# Altium integrated library Xilinx Spartan-3AN.IntLib: 30 symbols (part 5 of 23)
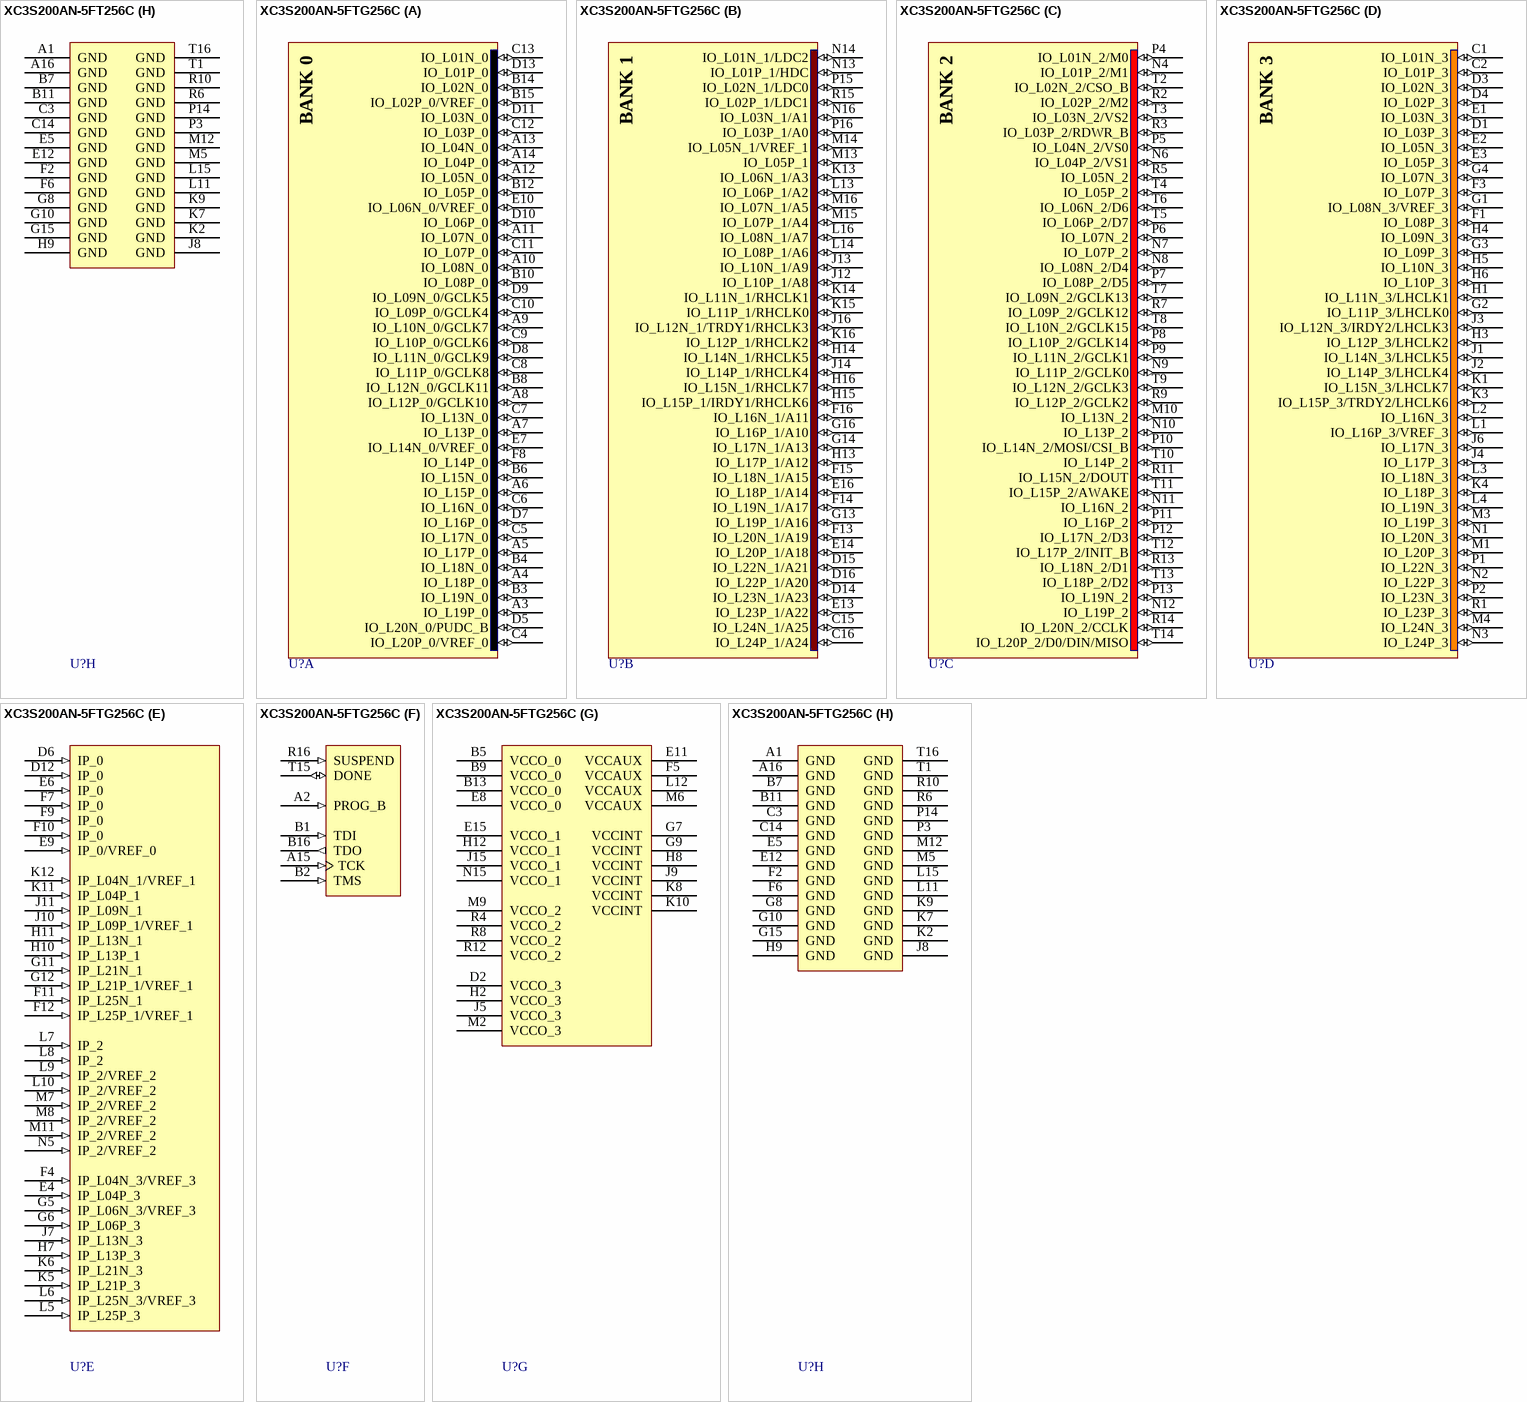
[diagram p41: symbols XC3S200AN-5FT256C to XC3S200AN-5FTG256C]

## XC3S200AN-5FT256C
designator U?
Spartan-3AN Non-Volatile FPGA, 195 User I/Os, 256-Pin FTBGA, High Performance, Commercial Grade; DatasheetVersion: ver 3.2, Nov-2009; PackageVersion: ver1.3, Oct-2007; PackageReference: FT256; PackageDescription: 256-Ball Fine Pitch Thin Ball Grid Array 1.00 mm Pitch (FT256); Code_JEDEC: MS-034-AAF-1*; ComponentLink1Description: Manufacturer URL; ComponentLink1URL: http://www.xilinx.com/; ComponentLink2Description: Spartan-3AN Datasheet; ComponentLink2URL: http://www.xilinx.com/support/documentation/data_sheets/ds557.pdf; ComponentLink3Description: FT256 Package Drawing; ComponentLink3URL: http://www.xilinx.com/support/documentation/package_specs/ft256.pdf; ComponentLink4Description: Spartan-3AN Documents; ComponentLink4URL: http://www.xilinx.com/support/documentation/spartan-3an.htm
footprint FT256 (BGA, 256-Leads, Body 17x17mm, Pitch 1mm)
part A pins: A3 IO_L19P_0 (io) "Unrestricted, general-purpose user-I/O pin.", A4 IO_L18P_0 (io) "Unrestricted, general-purpose user-I/O pin.", A5 IO_L17P_0 (io) "Unrestricted, general-purpose user-I/O pin.", A6 IO_L15P_0 (io) "Unrestricted, general-purpose user-I/O pin.", A7 IO_L13P_0 (io) "Unrestricted, general-purpose user-I/O pin.", A8 IO_L12P_0/GCLK10 (io) "Either a user-I/O pin or a global clock input.", A9 IO_L10N_0/GCLK7 (io) "Either a user-I/O pin or a global clock input.", A10 IO_L08N_0 (io) "Unrestricted, general-purpose user-I/O pin.", A11 IO_L07N_0 (io) "Unrestricted, general-purpose user-I/O pin.", A12 IO_L05N_0 (io) "Unrestricted, general-purpose user-I/O pin.", A13 IO_L04N_0 (io) "Unrestricted, general-purpose user-I/O pin.", A14 IO_L04P_0 (io) "Unrestricted, general-purpose user-I/O pin.", B3 IO_L19N_0 (io) "Unrestricted, general-purpose user-I/O pin.", B4 IO_L18N_0 (io) "Unrestricted, general-purpose user-I/O pin.", B6 IO_L15N_0 (io) "Unrestricted, general-purpose user-I/O pin.", B8 IO_L12N_0/GCLK11 (io) "Either a user-I/O pin or a global clock input.", B10 IO_L08P_0 (io) "Unrestricted, general-purpose user-I/O pin.", B12 IO_L05P_0 (io) "Unrestricted, general-purpose user-I/O pin.", B14 IO_L02N_0 (io) "Unrestricted, general-purpose user-I/O pin.", B15 IO_L02P_0/VREF_0 (io) "Dual-purpose pin that is either a user-I/O pin or provides a reference voltage input.", C4 IO_L20P_0/VREF_0 (io) "Dual-purpose pin that is either a user-I/O pin or provides a reference voltage input.", C5 IO_L17N_0 (io) "Unrestricted, general-purpose user-I/O pin.", C6 IO_L16N_0 (io) "Unrestricted, general-purpose user-I/O pin.", C7 IO_L13N_0 (io) "Unrestricted, general-purpose user-I/O pin.", C8 IO_L11P_0/GCLK8 (io) "Either a user-I/O pin or a global clock input.", C9 IO_L10P_0/GCLK6 (io) "Either a user-I/O pin or a global clock input.", C10 IO_L09P_0/GCLK4 (io) "Either a user-I/O pin or a global clock input.", C11 IO_L07P_0 (io) "Unrestricted, general-purpose user-I/O pin.", C12 IO_L03P_0 (io) "Unrestricted, general-purpose user-I/O pin.", C13 IO_L01N_0 (io) "Unrestricted, general-purpose user-I/O pin.", D5 IO_L20N_0/PUDC_B (io) "Dual-purpose pin used in some configuration modes, and then usually available as a user-I/O.", D7 IO_L16P_0 (io) "Unrestricted, general-purpose user-I/O pin.", D8 IO_L11N_0/GCLK9 (io) "Either a user-I/O pin or a global clock input.", D9 IO_L09N_0/GCLK5 (io) "Either a user-I/O pin or a global clock input.", D10 IO_L06P_0 (io) "Unrestricted, general-purpose user-I/O pin.", D11 IO_L03N_0 (io) "Unrestricted, general-purpose user-I/O pin.", D13 IO_L01P_0 (io) "Unrestricted, general-purpose user-I/O pin.", E7 IO_L14N_0/VREF_0 (io) "Dual-purpose pin that is either a user-I/O pin or provides a reference voltage input.", E10 IO_L06N_0/VREF_0 (io) "Dual-purpose pin that is either a user-I/O pin or provides a reference voltage input.", F8 IO_L14P_0 (io) "Unrestricted, general-purpose user-I/O pin."
part B pins: C15 IO_L24N_1/A25 (io) "Dual-purpose pin used in some configuration modes, and then usually available as a user-I/O.", C16 IO_L24P_1/A24 (io) "Dual-purpose pin used in some configuration modes, and then usually available as a user-I/O.", D14 IO_L23N_1/A23 (io) "Dual-purpose pin used in some configuration modes, and then usually available as a user-I/O.", D15 IO_L22N_1/A21 (io) "Dual-purpose pin used in some configuration modes, and then usually available as a user-I/O.", D16 IO_L22P_1/A20 (io) "Dual-purpose pin used in some configuration modes, and then usually available as a user-I/O.", E13 IO_L23P_1/A22 (io) "Dual-purpose pin used in some configuration modes, and then usually available as a user-I/O.", E14 IO_L20P_1/A18 (io) "Dual-purpose pin used in some configuration modes, and then usually available as a user-I/O.", E16 IO_L18P_1/A14 (io) "Dual-purpose pin used in some configuration modes, and then usually available as a user-I/O.", F13 IO_L20N_1/A19 (io) "Dual-purpose pin used in some configuration modes, and then usually available as a user-I/O.", F14 IO_L19N_1/A17 (io) "Dual-purpose pin used in some configuration modes, and then usually available as a user-I/O.", F15 IO_L18N_1/A15 (io) "Dual-purpose pin used in some configuration modes, and then usually available as a user-I/O.", F16 IO_L16N_1/A11 (io) "Dual-purpose pin used in some configuration modes, and then usually available as a user-I/O.", G13 IO_L19P_1/A16 (io) "Dual-purpose pin used in some configuration modes, and then usually available as a user-I/O.", G14 IO_L17N_1/A13 (io) "Dual-purpose pin used in some configuration modes, and then usually available as a user-I/O.", G16 IO_L16P_1/A10 (io) "Dual-purpose pin used in some configuration modes, and then usually available as a user-I/O.", H13 IO_L17P_1/A12 (io) "Dual-purpose pin used in some configuration modes, and then usually available as a user-I/O.", H14 IO_L14N_1/RHCLK5 (io) "Either a user-I/O pin or a global clock input for right half of device.", H15 IO_L15P_1/IRDY1/RHCLK6 (io) "Either a user-I/O pin or a global clock input for right half of device.", H16 IO_L15N_1/RHCLK7 (io) "Either a user-I/O pin or a global clock input for right half of device.", J12 IO_L10P_1/A8 (io) "Dual-purpose pin used in some configuration modes, and then usually available as a user-I/O.", J13 IO_L10N_1/A9 (io) "Dual-purpose pin used in some configuration modes, and then usually available as a user-I/O.", J14 IO_L14P_1/RHCLK4 (io) "Either a user-I/O pin or a global clock input for right half of device.", J16 IO_L12N_1/TRDY1/RHCLK3 (io) "Either a user-I/O pin or a global clock input for right half of device.", K13 IO_L06N_1/A3 (io) "Dual-purpose pin used in some configuration modes, and then usually available as a user-I/O.", K14 IO_L11N_1/RHCLK1 (io) "Either a user-I/O pin or a global clock input for right half of device.", K15 IO_L11P_1/RHCLK0 (io) "Either a user-I/O pin or a global clock input for right half of device.", K16 IO_L12P_1/RHCLK2 (io) "Either a user-I/O pin or a global clock input for right half of device.", L13 IO_L06P_1/A2 (io) "Dual-purpose pin used in some configuration modes, and then usually available as a user-I/O.", L14 IO_L08P_1/A6 (io) "Dual-purpose pin used in some configuration modes, and then usually available as a user-I/O.", L16 IO_L08N_1/A7 (io) "Dual-purpose pin used in some configuration modes, and then usually available as a user-I/O.", M13 IO_L05P_1 (io) "Unrestricted, general-purpose user-I/O pin.", M14 IO_L05N_1/VREF_1 (io) "Dual-purpose pin that is either a user-I/O pin or provides a reference voltage input.", M15 IO_L07P_1/A4 (io) "Dual-purpose pin used in some configuration modes, and then usually available as a user-I/O.", M16 IO_L07N_1/A5 (io) "Dual-purpose pin used in some configuration modes, and then usually available as a user-I/O.", N13 IO_L01P_1/HDC (io) "Dual-purpose pin used in some configuration modes, and then usually available as a user-I/O.", N14 IO_L01N_1/LDC2 (io) "Dual-purpose pin used in some configuration modes, and then usually available as a user-I/O.", N16 IO_L03N_1/A1 (io) "Dual-purpose pin used in some configuration modes, and then usually available as a user-I/O.", P15 IO_L02N_1/LDC0 (io) "Dual-purpose pin used in some configuration modes, and then usually available as a user-I/O.", P16 IO_L03P_1/A0 (io) "Dual-purpose pin used in some configuration modes, and then usually available as a user-I/O.", R15 IO_L02P_1/LDC1 (io) "Dual-purpose pin used in some configuration modes, and then usually available as a user-I/O."
part C pins: M10 IO_L13N_2 (io) "Unrestricted, general-purpose user-I/O pin.", N4 IO_L01P_2/M1 (io) "Dual-purpose pin used in some configuration modes, and then usually available as a user-I/O.", N6 IO_L04P_2/VS1 (io) "Dual-purpose pin used in some configuration modes, and then usually available as a user-I/O.", N7 IO_L07P_2 (io) "Unrestricted, general-purpose user-I/O pin.", N8 IO_L08N_2/D4 (io) "Dual-purpose pin used in some configuration modes, and then usually available as a user-I/O.", N9 IO_L11P_2/GCLK0 (io) "Either a user-I/O pin or a global clock input.", N10 IO_L13P_2 (io) "Unrestricted, general-purpose user-I/O pin.", N11 IO_L16N_2 (io) "Unrestricted, general-purpose user-I/O pin.", N12 IO_L19P_2 (io) "Unrestricted, general-purpose user-I/O pin.", P4 IO_L01N_2/M0 (io) "Dual-purpose pin used in some configuration modes, and then usually available as a user-I/O.", P5 IO_L04N_2/VS0 (io) "Dual-purpose pin used in some configuration modes, and then usually available as a user-I/O.", P6 IO_L07N_2 (io) "Unrestricted, general-purpose user-I/O pin.", P7 IO_L08P_2/D5 (io) "Dual-purpose pin used in some configuration modes, and then usually available as a user-I/O.", P8 IO_L10P_2/GCLK14 (io) "Either a user-I/O pin or a global clock input.", P9 IO_L11N_2/GCLK1 (io) "Either a user-I/O pin or a global clock input.", P10 IO_L14N_2/MOSI/CSI_B (io) "Dual-purpose pin used in some configuration modes, and then usually available as a user-I/O.", P11 IO_L16P_2 (io) "Unrestricted, general-purpose user-I/O pin.", P12 IO_L17N_2/D3 (io) "Dual-purpose pin used in some configuration modes, and then usually available as a user-I/O.", P13 IO_L19N_2 (io) "Unrestricted, general-purpose user-I/O pin.", R2 IO_L02P_2/M2 (io) "Dual-purpose pin used in some configuration modes, and then usually available as a user-I/O.", R3 IO_L03P_2/RDWR_B (io) "Dual-purpose pin used in some configuration modes, and then usually available as a user-I/O.", R5 IO_L05N_2 (io) "Unrestricted, general-purpose user-I/O pin.", R7 IO_L09P_2/GCLK12 (io) "Either a user-I/O pin or a global clock input.", R9 IO_L12P_2/GCLK2 (io) "Either a user-I/O pin or a global clock input.", R11 IO_L15N_2/DOUT (io) "Dual-purpose pin used in some configuration modes, and then usually available as a user-I/O.", R13 IO_L18N_2/D1 (io) "Dual-purpose pin used in some configuration modes, and then usually available as a user-I/O.", R14 IO_L20N_2/CCLK (io) "Dual-purpose pin used in some configuration modes, and then usually available as a user-I/O.", T2 IO_L02N_2/CSO_B (io) "Dual-purpose pin used in some configuration modes, and then usually available as a user-I/O.", T3 IO_L03N_2/VS2 (io) "Dual-purpose pin used in some configuration modes, and then usually available as a user-I/O.", T4 IO_L05P_2 (io) "Unrestricted, general-purpose user-I/O pin.", T5 IO_L06P_2/D7 (io) "Dual-purpose pin used in some configuration modes, and then usually available as a user-I/O.", T6 IO_L06N_2/D6 (io) "Dual-purpose pin used in some configuration modes, and then usually available as a user-I/O.", T7 IO_L09N_2/GCLK13 (io) "Either a user-I/O pin or a global clock input.", T8 IO_L10N_2/GCLK15 (io) "Either a user-I/O pin or a global clock input.", T9 IO_L12N_2/GCLK3 (io) "Either a user-I/O pin or a global clock input.", T10 IO_L14P_2 (io) "Unrestricted, general-purpose user-I/O pin.", T11 IO_L15P_2/AWAKE (io) "Dual-Purpose pin. Used for the power-saving Suspend mode and user-I/O.", T12 IO_L17P_2/INIT_B (io) "Dual-purpose pin used in some configuration modes, and then usually available as a user-I/O.", T13 IO_L18P_2/D2 (io) "Dual-purpose pin used in some configuration modes, and then usually available as a user-I/O.", T14 IO_L20P_2/D0/DIN/MISO (io) "Dual-purpose pin used in some configuration modes, and then usually available as a user-I/O."
part D pins: C1 IO_L01N_3 (io) "Unrestricted, general-purpose user-I/O pin.", C2 IO_L01P_3 (io) "Unrestricted, general-purpose user-I/O pin.", D1 IO_L03P_3 (io) "Unrestricted, general-purpose user-I/O pin.", D3 IO_L02N_3 (io) "Unrestricted, general-purpose user-I/O pin.", D4 IO_L02P_3 (io) "Unrestricted, general-purpose user-I/O pin.", E1 IO_L03N_3 (io) "Unrestricted, general-purpose user-I/O pin.", E2 IO_L05N_3 (io) "Unrestricted, general-purpose user-I/O pin.", E3 IO_L05P_3 (io) "Unrestricted, general-purpose user-I/O pin.", F1 IO_L08P_3 (io) "Unrestricted, general-purpose user-I/O pin.", F3 IO_L07P_3 (io) "Unrestricted, general-purpose user-I/O pin.", G1 IO_L08N_3/VREF_3 (io) "Dual-purpose pin that is either a user-I/O pin or provides a reference voltage input.", G2 IO_L11P_3/LHCLK0 (io) "Either a user-I/O pin or a global clock input for left half of device.", G3 IO_L09P_3 (io) "Unrestricted, general-purpose user-I/O pin.", G4 IO_L07N_3 (io) "Unrestricted, general-purpose user-I/O pin.", H1 IO_L11N_3/LHCLK1 (io) "Either a user-I/O pin or a global clock input for left half of device.", H3 IO_L12P_3/LHCLK2 (io) "Either a user-I/O pin or a global clock input for left half of device.", H4 IO_L09N_3 (io) "Unrestricted, general-purpose user-I/O pin.", H5 IO_L10N_3 (io) "Unrestricted, general-purpose user-I/O pin.", H6 IO_L10P_3 (io) "Unrestricted, general-purpose user-I/O pin.", J1 IO_L14N_3/LHCLK5 (io) "Either a user-I/O pin or a global clock input for left half of device.", J2 IO_L14P_3/LHCLK4 (io) "Either a user-I/O pin or a global clock input for left half of device.", J3 IO_L12N_3/IRDY2/LHCLK3 (io) "Either a user-I/O pin or a global clock input for left half of device.", J4 IO_L17P_3 (io) "Unrestricted, general-purpose user-I/O pin.", J6 IO_L17N_3 (io) "Unrestricted, general-purpose user-I/O pin.", K1 IO_L15N_3/LHCLK7 (io) "Either a user-I/O pin or a global clock input for left half of device.", K3 IO_L15P_3/TRDY2/LHCLK6 (io) "Either a user-I/O pin or a global clock input for left half of device.", K4 IO_L18P_3 (io) "Unrestricted, general-purpose user-I/O pin.", L1 IO_L16P_3/VREF_3 (io) "Dual-purpose pin that is either a user-I/O pin or provides a reference voltage input.", L2 IO_L16N_3 (io) "Unrestricted, general-purpose user-I/O pin.", L3 IO_L18N_3 (io) "Unrestricted, general-purpose user-I/O pin.", L4 IO_L19N_3 (io) "Unrestricted, general-purpose user-I/O pin.", M1 IO_L20P_3 (io) "Unrestricted, general-purpose user-I/O pin.", M3 IO_L19P_3 (io) "Unrestricted, general-purpose user-I/O pin.", M4 IO_L24N_3 (io) "Unrestricted, general-purpose user-I/O pin.", N1 IO_L20N_3 (io) "Unrestricted, general-purpose user-I/O pin.", N2 IO_L22P_3 (io) "Unrestricted, general-purpose user-I/O pin.", N3 IO_L24P_3 (io) "Unrestricted, general-purpose user-I/O pin.", P1 IO_L22N_3 (io) "Unrestricted, general-purpose user-I/O pin.", P2 IO_L23N_3 (io) "Unrestricted, general-purpose user-I/O pin.", R1 IO_L23P_3 (io) "Unrestricted, general-purpose user-I/O pin."
part E pins: D6 IP_0 (in) "Unrestricted, general-purpose input-only pin.", D12 IP_0 (in) "Unrestricted, general-purpose input-only pin.", E4 IP_L04P_3 (in) "Unrestricted, general-purpose input-only pin.", E6 IP_0 (in) "Unrestricted, general-purpose input-only pin.", E9 IP_0/VREF_0 (in) "Dual-purpose pin that is either a Input-only pin, or provides a reference voltage input.", F4 IP_L04N_3/VREF_3 (in) "Dual-purpose pin that is either a Input-only pin, or provides a reference voltage input.", F7 IP_0 (in) "Unrestricted, general-purpose input-only pin.", F9 IP_0 (in) "Unrestricted, general-purpose input-only pin.", F10 IP_0 (in) "Unrestricted, general-purpose input-only pin.", F11 IP_L25N_1 (in) "Unrestricted, general-purpose input-only pin.", F12 IP_L25P_1/VREF_1 (in) "Dual-purpose pin that is either a Input-only pin, or provides a reference voltage input.", G5 IP_L06N_3/VREF_3 (in) "Dual-purpose pin that is either a Input-only pin, or provides a reference voltage input.", G6 IP_L06P_3 (in) "Unrestricted, general-purpose input-only pin.", G11 IP_L21N_1 (in) "Unrestricted, general-purpose input-only pin.", G12 IP_L21P_1/VREF_1 (in) "Dual-purpose pin that is either a Input-only pin, or provides a reference voltage input.", H7 IP_L13P_3 (in) "Unrestricted, general-purpose input-only pin.", H10 IP_L13P_1 (in) "Unrestricted, general-purpose input-only pin.", H11 IP_L13N_1 (in) "Unrestricted, general-purpose input-only pin.", J7 IP_L13N_3 (in) "Unrestricted, general-purpose input-only pin.", J10 IP_L09P_1/VREF_1 (in) "Dual-purpose pin that is either a Input-only pin, or provides a reference voltage input.", J11 IP_L09N_1 (in) "Unrestricted, general-purpose input-only pin.", K5 IP_L21P_3 (in) "Unrestricted, general-purpose input-only pin.", K6 IP_L21N_3 (in) "Unrestricted, general-purpose input-only pin.", K11 IP_L04P_1 (in) "Unrestricted, general-purpose input-only pin.", K12 IP_L04N_1/VREF_1 (in) "Dual-purpose pin that is either a Input-only pin, or provides a reference voltage input.", L5 IP_L25P_3 (in) "Unrestricted, general-purpose input-only pin.", L6 IP_L25N_3/VREF_3 (in) "Dual-purpose pin that is either a Input-only pin, or provides a reference voltage input.", L7 IP_2 (in) "Unrestricted, general-purpose input-only pin.", L8 IP_2 (in) "Unrestricted, general-purpose input-only pin.", L9 IP_2/VREF_2 (in) "Dual-purpose pin that is either a Input-only pin, or provides a reference voltage input.", L10 IP_2/VREF_2 (in) "Dual-purpose pin that is either a Input-only pin, or provides a reference voltage input.", M7 IP_2/VREF_2 (in) "Dual-purpose pin that is either a Input-only pin, or provides a reference voltage input.", M8 IP_2/VREF_2 (in) "Dual-purpose pin that is either a Input-only pin, or provides a reference voltage input.", M11 IP_2/VREF_2 (in) "Dual-purpose pin that is either a Input-only pin, or provides a reference voltage input.", N5 IP_2/VREF_2 (in) "Dual-purpose pin that is either a Input-only pin, or provides a reference voltage input."
part F pins: A2 PROG_B (in) "Dedicated configuration pin.", A15 TCK (in) "Dedicated JTAG pin.", B1 TDI (in) "Dedicated JTAG pin.", B2 TMS (in) "Dedicated JTAG pin.", B16 TDO (out) "Dedicated JTAG pin.", R16 SUSPEND (in) "Dedicated pin for the power-saving Suspend mode.", T15 DONE (io) "Dedicated configuration pin."
part G pins: B5 VCCO_0 (power) "Supplies power to the output buffers within the I/O bank.", B9 VCCO_0 (power) "Supplies power to the output buffers within the I/O bank.", B13 VCCO_0 (power) "Supplies power to the output buffers within the I/O bank.", D2 VCCO_3 (power) "Supplies power to the output buffers within the I/O bank.", E8 VCCO_0 (power) "Supplies power to the output buffers within the I/O bank.", E11 VCCAUX (power) "Dedicated auxiliary power supply pin.", E15 VCCO_1 (power) "Supplies power to the output buffers within the I/O bank.", F5 VCCAUX (power) "Dedicated auxiliary power supply pin.", G7 VCCINT (power) "Dedicated internal core logic power supply pin.", G9 VCCINT (power) "Dedicated internal core logic power supply pin.", H2 VCCO_3 (power) "Supplies power to the output buffers within the I/O bank.", H8 VCCINT (power) "Dedicated internal core logic power supply pin.", H12 VCCO_1 (power) "Supplies power to the output buffers within the I/O bank.", J5 VCCO_3 (power) "Supplies power to the output buffers within the I/O bank.", J9 VCCINT (power) "Dedicated internal core logic power supply pin.", J15 VCCO_1 (power) "Supplies power to the output buffers within the I/O bank.", K8 VCCINT (power) "Dedicated internal core logic power supply pin.", K10 VCCINT (power) "Dedicated internal core logic power supply pin.", L12 VCCAUX (power) "Dedicated auxiliary power supply pin.", M2 VCCO_3 (power) "Supplies power to the output buffers within the I/O bank.", M6 VCCAUX (power) "Dedicated auxiliary power supply pin.", M9 VCCO_2 (power) "Supplies power to the output buffers within the I/O bank.", N15 VCCO_1 (power) "Supplies power to the output buffers within the I/O bank.", R4 VCCO_2 (power) "Supplies power to the output buffers within the I/O bank.", R8 VCCO_2 (power) "Supplies power to the output buffers within the I/O bank.", R12 VCCO_2 (power) "Supplies power to the output buffers within the I/O bank."
part H pins: A1 GND (power) "Dedicated ground pin.", A16 GND (power) "Dedicated ground pin.", B7 GND (power) "Dedicated ground pin.", B11 GND (power) "Dedicated ground pin.", C3 GND (power) "Dedicated ground pin.", C14 GND (power) "Dedicated ground pin.", E5 GND (power) "Dedicated ground pin.", E12 GND (power) "Dedicated ground pin.", F2 GND (power) "Dedicated ground pin.", F6 GND (power) "Dedicated ground pin.", G8 GND (power) "Dedicated ground pin.", G10 GND (power) "Dedicated ground pin.", G15 GND (power) "Dedicated ground pin.", H9 GND (power) "Dedicated ground pin.", J8 GND (power) "Dedicated ground pin.", K2 GND (power) "Dedicated ground pin.", K7 GND (power) "Dedicated ground pin.", K9 GND (power) "Dedicated ground pin.", L11 GND (power) "Dedicated ground pin.", L15 GND (power) "Dedicated ground pin.", M5 GND (power) "Dedicated ground pin.", M12 GND (power) "Dedicated ground pin.", P3 GND (power) "Dedicated ground pin.", P14 GND (power) "Dedicated ground pin.", R6 GND (power) "Dedicated ground pin.", R10 GND (power) "Dedicated ground pin.", T1 GND (power) "Dedicated ground pin.", T16 GND (power) "Dedicated ground pin."
part A text: BANK 0
part B text: BANK 1
part C text: BANK 2
part D text: BANK 3

## XC3S200AN-5FTG256C
designator U?
Spartan-3AN Non-Volatile FPGA, 195 User I/Os, 256-Pin FTBGA, High Performance, Commercial Grade, Pb-Free; DatasheetVersion: ver 3.2, Nov-2009; PackageVersion: ver1.3, Oct-2007; PackageReference: FTG256; PackageDescription: 256-Ball Fine Pitch Thin Ball Grid Array 1.00 mm Pitch (FTG256) - Pb-Free; Code_JEDEC: MS-034-AAF-1*; ComponentLink1Description: Manufacturer URL; ComponentLink1URL: http://www.xilinx.com/; ComponentLink2Description: Spartan-3AN Datasheet; ComponentLink2URL: http://www.xilinx.com/support/documentation/data_sheets/ds557.pdf; ComponentLink3Description: FTG256 Package Drawing; ComponentLink3URL: http://www.xilinx.com/support/documentation/package_specs/ft256.pdf; ComponentLink4Description: Spartan-3AN Documents; ComponentLink4URL: http://www.xilinx.com/support/documentation/spartan-3an.htm
footprint FTG256 (BGA, 256-Leads, Body 17x17mm, Pitch 1mm)
part A pins: A3 IO_L19P_0 (io) "Unrestricted, general-purpose user-I/O pin.", A4 IO_L18P_0 (io) "Unrestricted, general-purpose user-I/O pin.", A5 IO_L17P_0 (io) "Unrestricted, general-purpose user-I/O pin.", A6 IO_L15P_0 (io) "Unrestricted, general-purpose user-I/O pin.", A7 IO_L13P_0 (io) "Unrestricted, general-purpose user-I/O pin.", A8 IO_L12P_0/GCLK10 (io) "Either a user-I/O pin or a global clock input.", A9 IO_L10N_0/GCLK7 (io) "Either a user-I/O pin or a global clock input.", A10 IO_L08N_0 (io) "Unrestricted, general-purpose user-I/O pin.", A11 IO_L07N_0 (io) "Unrestricted, general-purpose user-I/O pin.", A12 IO_L05N_0 (io) "Unrestricted, general-purpose user-I/O pin.", A13 IO_L04N_0 (io) "Unrestricted, general-purpose user-I/O pin.", A14 IO_L04P_0 (io) "Unrestricted, general-purpose user-I/O pin.", B3 IO_L19N_0 (io) "Unrestricted, general-purpose user-I/O pin.", B4 IO_L18N_0 (io) "Unrestricted, general-purpose user-I/O pin.", B6 IO_L15N_0 (io) "Unrestricted, general-purpose user-I/O pin.", B8 IO_L12N_0/GCLK11 (io) "Either a user-I/O pin or a global clock input.", B10 IO_L08P_0 (io) "Unrestricted, general-purpose user-I/O pin.", B12 IO_L05P_0 (io) "Unrestricted, general-purpose user-I/O pin.", B14 IO_L02N_0 (io) "Unrestricted, general-purpose user-I/O pin.", B15 IO_L02P_0/VREF_0 (io) "Dual-purpose pin that is either a user-I/O pin or provides a reference voltage input.", C4 IO_L20P_0/VREF_0 (io) "Dual-purpose pin that is either a user-I/O pin or provides a reference voltage input.", C5 IO_L17N_0 (io) "Unrestricted, general-purpose user-I/O pin.", C6 IO_L16N_0 (io) "Unrestricted, general-purpose user-I/O pin.", C7 IO_L13N_0 (io) "Unrestricted, general-purpose user-I/O pin.", C8 IO_L11P_0/GCLK8 (io) "Either a user-I/O pin or a global clock input.", C9 IO_L10P_0/GCLK6 (io) "Either a user-I/O pin or a global clock input.", C10 IO_L09P_0/GCLK4 (io) "Either a user-I/O pin or a global clock input.", C11 IO_L07P_0 (io) "Unrestricted, general-purpose user-I/O pin.", C12 IO_L03P_0 (io) "Unrestricted, general-purpose user-I/O pin.", C13 IO_L01N_0 (io) "Unrestricted, general-purpose user-I/O pin.", D5 IO_L20N_0/PUDC_B (io) "Dual-purpose pin used in some configuration modes, and then usually available as a user-I/O.", D7 IO_L16P_0 (io) "Unrestricted, general-purpose user-I/O pin.", D8 IO_L11N_0/GCLK9 (io) "Either a user-I/O pin or a global clock input.", D9 IO_L09N_0/GCLK5 (io) "Either a user-I/O pin or a global clock input.", D10 IO_L06P_0 (io) "Unrestricted, general-purpose user-I/O pin.", D11 IO_L03N_0 (io) "Unrestricted, general-purpose user-I/O pin.", D13 IO_L01P_0 (io) "Unrestricted, general-purpose user-I/O pin.", E7 IO_L14N_0/VREF_0 (io) "Dual-purpose pin that is either a user-I/O pin or provides a reference voltage input.", E10 IO_L06N_0/VREF_0 (io) "Dual-purpose pin that is either a user-I/O pin or provides a reference voltage input.", F8 IO_L14P_0 (io) "Unrestricted, general-purpose user-I/O pin."
part B pins: C15 IO_L24N_1/A25 (io) "Dual-purpose pin used in some configuration modes, and then usually available as a user-I/O.", C16 IO_L24P_1/A24 (io) "Dual-purpose pin used in some configuration modes, and then usually available as a user-I/O.", D14 IO_L23N_1/A23 (io) "Dual-purpose pin used in some configuration modes, and then usually available as a user-I/O.", D15 IO_L22N_1/A21 (io) "Dual-purpose pin used in some configuration modes, and then usually available as a user-I/O.", D16 IO_L22P_1/A20 (io) "Dual-purpose pin used in some configuration modes, and then usually available as a user-I/O.", E13 IO_L23P_1/A22 (io) "Dual-purpose pin used in some configuration modes, and then usually available as a user-I/O.", E14 IO_L20P_1/A18 (io) "Dual-purpose pin used in some configuration modes, and then usually available as a user-I/O.", E16 IO_L18P_1/A14 (io) "Dual-purpose pin used in some configuration modes, and then usually available as a user-I/O.", F13 IO_L20N_1/A19 (io) "Dual-purpose pin used in some configuration modes, and then usually available as a user-I/O.", F14 IO_L19N_1/A17 (io) "Dual-purpose pin used in some configuration modes, and then usually available as a user-I/O.", F15 IO_L18N_1/A15 (io) "Dual-purpose pin used in some configuration modes, and then usually available as a user-I/O.", F16 IO_L16N_1/A11 (io) "Dual-purpose pin used in some configuration modes, and then usually available as a user-I/O.", G13 IO_L19P_1/A16 (io) "Dual-purpose pin used in some configuration modes, and then usually available as a user-I/O.", G14 IO_L17N_1/A13 (io) "Dual-purpose pin used in some configuration modes, and then usually available as a user-I/O.", G16 IO_L16P_1/A10 (io) "Dual-purpose pin used in some configuration modes, and then usually available as a user-I/O.", H13 IO_L17P_1/A12 (io) "Dual-purpose pin used in some configuration modes, and then usually available as a user-I/O.", H14 IO_L14N_1/RHCLK5 (io) "Either a user-I/O pin or a global clock input for right half of device.", H15 IO_L15P_1/IRDY1/RHCLK6 (io) "Either a user-I/O pin or a global clock input for right half of device.", H16 IO_L15N_1/RHCLK7 (io) "Either a user-I/O pin or a global clock input for right half of device.", J12 IO_L10P_1/A8 (io) "Dual-purpose pin used in some configuration modes, and then usually available as a user-I/O.", J13 IO_L10N_1/A9 (io) "Dual-purpose pin used in some configuration modes, and then usually available as a user-I/O.", J14 IO_L14P_1/RHCLK4 (io) "Either a user-I/O pin or a global clock input for right half of device.", J16 IO_L12N_1/TRDY1/RHCLK3 (io) "Either a user-I/O pin or a global clock input for right half of device.", K13 IO_L06N_1/A3 (io) "Dual-purpose pin used in some configuration modes, and then usually available as a user-I/O.", K14 IO_L11N_1/RHCLK1 (io) "Either a user-I/O pin or a global clock input for right half of device.", K15 IO_L11P_1/RHCLK0 (io) "Either a user-I/O pin or a global clock input for right half of device.", K16 IO_L12P_1/RHCLK2 (io) "Either a user-I/O pin or a global clock input for right half of device.", L13 IO_L06P_1/A2 (io) "Dual-purpose pin used in some configuration modes, and then usually available as a user-I/O.", L14 IO_L08P_1/A6 (io) "Dual-purpose pin used in some configuration modes, and then usually available as a user-I/O.", L16 IO_L08N_1/A7 (io) "Dual-purpose pin used in some configuration modes, and then usually available as a user-I/O.", M13 IO_L05P_1 (io) "Unrestricted, general-purpose user-I/O pin.", M14 IO_L05N_1/VREF_1 (io) "Dual-purpose pin that is either a user-I/O pin or provides a reference voltage input.", M15 IO_L07P_1/A4 (io) "Dual-purpose pin used in some configuration modes, and then usually available as a user-I/O.", M16 IO_L07N_1/A5 (io) "Dual-purpose pin used in some configuration modes, and then usually available as a user-I/O.", N13 IO_L01P_1/HDC (io) "Dual-purpose pin used in some configuration modes, and then usually available as a user-I/O.", N14 IO_L01N_1/LDC2 (io) "Dual-purpose pin used in some configuration modes, and then usually available as a user-I/O.", N16 IO_L03N_1/A1 (io) "Dual-purpose pin used in some configuration modes, and then usually available as a user-I/O.", P15 IO_L02N_1/LDC0 (io) "Dual-purpose pin used in some configuration modes, and then usually available as a user-I/O.", P16 IO_L03P_1/A0 (io) "Dual-purpose pin used in some configuration modes, and then usually available as a user-I/O.", R15 IO_L02P_1/LDC1 (io) "Dual-purpose pin used in some configuration modes, and then usually available as a user-I/O."
part C pins: M10 IO_L13N_2 (io) "Unrestricted, general-purpose user-I/O pin.", N4 IO_L01P_2/M1 (io) "Dual-purpose pin used in some configuration modes, and then usually available as a user-I/O.", N6 IO_L04P_2/VS1 (io) "Dual-purpose pin used in some configuration modes, and then usually available as a user-I/O.", N7 IO_L07P_2 (io) "Unrestricted, general-purpose user-I/O pin.", N8 IO_L08N_2/D4 (io) "Dual-purpose pin used in some configuration modes, and then usually available as a user-I/O.", N9 IO_L11P_2/GCLK0 (io) "Either a user-I/O pin or a global clock input.", N10 IO_L13P_2 (io) "Unrestricted, general-purpose user-I/O pin.", N11 IO_L16N_2 (io) "Unrestricted, general-purpose user-I/O pin.", N12 IO_L19P_2 (io) "Unrestricted, general-purpose user-I/O pin.", P4 IO_L01N_2/M0 (io) "Dual-purpose pin used in some configuration modes, and then usually available as a user-I/O.", P5 IO_L04N_2/VS0 (io) "Dual-purpose pin used in some configuration modes, and then usually available as a user-I/O.", P6 IO_L07N_2 (io) "Unrestricted, general-purpose user-I/O pin.", P7 IO_L08P_2/D5 (io) "Dual-purpose pin used in some configuration modes, and then usually available as a user-I/O.", P8 IO_L10P_2/GCLK14 (io) "Either a user-I/O pin or a global clock input.", P9 IO_L11N_2/GCLK1 (io) "Either a user-I/O pin or a global clock input.", P10 IO_L14N_2/MOSI/CSI_B (io) "Dual-purpose pin used in some configuration modes, and then usually available as a user-I/O.", P11 IO_L16P_2 (io) "Unrestricted, general-purpose user-I/O pin.", P12 IO_L17N_2/D3 (io) "Dual-purpose pin used in some configuration modes, and then usually available as a user-I/O.", P13 IO_L19N_2 (io) "Unrestricted, general-purpose user-I/O pin.", R2 IO_L02P_2/M2 (io) "Dual-purpose pin used in some configuration modes, and then usually available as a user-I/O.", R3 IO_L03P_2/RDWR_B (io) "Dual-purpose pin used in some configuration modes, and then usually available as a user-I/O.", R5 IO_L05N_2 (io) "Unrestricted, general-purpose user-I/O pin.", R7 IO_L09P_2/GCLK12 (io) "Either a user-I/O pin or a global clock input.", R9 IO_L12P_2/GCLK2 (io) "Either a user-I/O pin or a global clock input.", R11 IO_L15N_2/DOUT (io) "Dual-purpose pin used in some configuration modes, and then usually available as a user-I/O.", R13 IO_L18N_2/D1 (io) "Dual-purpose pin used in some configuration modes, and then usually available as a user-I/O.", R14 IO_L20N_2/CCLK (io) "Dual-purpose pin used in some configuration modes, and then usually available as a user-I/O.", T2 IO_L02N_2/CSO_B (io) "Dual-purpose pin used in some configuration modes, and then usually available as a user-I/O.", T3 IO_L03N_2/VS2 (io) "Dual-purpose pin used in some configuration modes, and then usually available as a user-I/O.", T4 IO_L05P_2 (io) "Unrestricted, general-purpose user-I/O pin.", T5 IO_L06P_2/D7 (io) "Dual-purpose pin used in some configuration modes, and then usually available as a user-I/O.", T6 IO_L06N_2/D6 (io) "Dual-purpose pin used in some configuration modes, and then usually available as a user-I/O.", T7 IO_L09N_2/GCLK13 (io) "Either a user-I/O pin or a global clock input.", T8 IO_L10N_2/GCLK15 (io) "Either a user-I/O pin or a global clock input.", T9 IO_L12N_2/GCLK3 (io) "Either a user-I/O pin or a global clock input.", T10 IO_L14P_2 (io) "Unrestricted, general-purpose user-I/O pin.", T11 IO_L15P_2/AWAKE (io) "Dual-Purpose pin. Used for the power-saving Suspend mode and user-I/O.", T12 IO_L17P_2/INIT_B (io) "Dual-purpose pin used in some configuration modes, and then usually available as a user-I/O.", T13 IO_L18P_2/D2 (io) "Dual-purpose pin used in some configuration modes, and then usually available as a user-I/O.", T14 IO_L20P_2/D0/DIN/MISO (io) "Dual-purpose pin used in some configuration modes, and then usually available as a user-I/O."
part D pins: C1 IO_L01N_3 (io) "Unrestricted, general-purpose user-I/O pin.", C2 IO_L01P_3 (io) "Unrestricted, general-purpose user-I/O pin.", D1 IO_L03P_3 (io) "Unrestricted, general-purpose user-I/O pin.", D3 IO_L02N_3 (io) "Unrestricted, general-purpose user-I/O pin.", D4 IO_L02P_3 (io) "Unrestricted, general-purpose user-I/O pin.", E1 IO_L03N_3 (io) "Unrestricted, general-purpose user-I/O pin.", E2 IO_L05N_3 (io) "Unrestricted, general-purpose user-I/O pin.", E3 IO_L05P_3 (io) "Unrestricted, general-purpose user-I/O pin.", F1 IO_L08P_3 (io) "Unrestricted, general-purpose user-I/O pin.", F3 IO_L07P_3 (io) "Unrestricted, general-purpose user-I/O pin.", G1 IO_L08N_3/VREF_3 (io) "Dual-purpose pin that is either a user-I/O pin or provides a reference voltage input.", G2 IO_L11P_3/LHCLK0 (io) "Either a user-I/O pin or a global clock input for left half of device.", G3 IO_L09P_3 (io) "Unrestricted, general-purpose user-I/O pin.", G4 IO_L07N_3 (io) "Unrestricted, general-purpose user-I/O pin.", H1 IO_L11N_3/LHCLK1 (io) "Either a user-I/O pin or a global clock input for left half of device.", H3 IO_L12P_3/LHCLK2 (io) "Either a user-I/O pin or a global clock input for left half of device.", H4 IO_L09N_3 (io) "Unrestricted, general-purpose user-I/O pin.", H5 IO_L10N_3 (io) "Unrestricted, general-purpose user-I/O pin.", H6 IO_L10P_3 (io) "Unrestricted, general-purpose user-I/O pin.", J1 IO_L14N_3/LHCLK5 (io) "Either a user-I/O pin or a global clock input for left half of device.", J2 IO_L14P_3/LHCLK4 (io) "Either a user-I/O pin or a global clock input for left half of device.", J3 IO_L12N_3/IRDY2/LHCLK3 (io) "Either a user-I/O pin or a global clock input for left half of device.", J4 IO_L17P_3 (io) "Unrestricted, general-purpose user-I/O pin.", J6 IO_L17N_3 (io) "Unrestricted, general-purpose user-I/O pin.", K1 IO_L15N_3/LHCLK7 (io) "Either a user-I/O pin or a global clock input for left half of device.", K3 IO_L15P_3/TRDY2/LHCLK6 (io) "Either a user-I/O pin or a global clock input for left half of device.", K4 IO_L18P_3 (io) "Unrestricted, general-purpose user-I/O pin.", L1 IO_L16P_3/VREF_3 (io) "Dual-purpose pin that is either a user-I/O pin or provides a reference voltage input.", L2 IO_L16N_3 (io) "Unrestricted, general-purpose user-I/O pin.", L3 IO_L18N_3 (io) "Unrestricted, general-purpose user-I/O pin.", L4 IO_L19N_3 (io) "Unrestricted, general-purpose user-I/O pin.", M1 IO_L20P_3 (io) "Unrestricted, general-purpose user-I/O pin.", M3 IO_L19P_3 (io) "Unrestricted, general-purpose user-I/O pin.", M4 IO_L24N_3 (io) "Unrestricted, general-purpose user-I/O pin.", N1 IO_L20N_3 (io) "Unrestricted, general-purpose user-I/O pin.", N2 IO_L22P_3 (io) "Unrestricted, general-purpose user-I/O pin.", N3 IO_L24P_3 (io) "Unrestricted, general-purpose user-I/O pin.", P1 IO_L22N_3 (io) "Unrestricted, general-purpose user-I/O pin.", P2 IO_L23N_3 (io) "Unrestricted, general-purpose user-I/O pin.", R1 IO_L23P_3 (io) "Unrestricted, general-purpose user-I/O pin."
part E pins: D6 IP_0 (in) "Unrestricted, general-purpose input-only pin.", D12 IP_0 (in) "Unrestricted, general-purpose input-only pin.", E4 IP_L04P_3 (in) "Unrestricted, general-purpose input-only pin.", E6 IP_0 (in) "Unrestricted, general-purpose input-only pin.", E9 IP_0/VREF_0 (in) "Dual-purpose pin that is either a Input-only pin, or provides a reference voltage input.", F4 IP_L04N_3/VREF_3 (in) "Dual-purpose pin that is either a Input-only pin, or provides a reference voltage input.", F7 IP_0 (in) "Unrestricted, general-purpose input-only pin.", F9 IP_0 (in) "Unrestricted, general-purpose input-only pin.", F10 IP_0 (in) "Unrestricted, general-purpose input-only pin.", F11 IP_L25N_1 (in) "Unrestricted, general-purpose input-only pin.", F12 IP_L25P_1/VREF_1 (in) "Dual-purpose pin that is either a Input-only pin, or provides a reference voltage input.", G5 IP_L06N_3/VREF_3 (in) "Dual-purpose pin that is either a Input-only pin, or provides a reference voltage input.", G6 IP_L06P_3 (in) "Unrestricted, general-purpose input-only pin.", G11 IP_L21N_1 (in) "Unrestricted, general-purpose input-only pin.", G12 IP_L21P_1/VREF_1 (in) "Dual-purpose pin that is either a Input-only pin, or provides a reference voltage input.", H7 IP_L13P_3 (in) "Unrestricted, general-purpose input-only pin.", H10 IP_L13P_1 (in) "Unrestricted, general-purpose input-only pin.", H11 IP_L13N_1 (in) "Unrestricted, general-purpose input-only pin.", J7 IP_L13N_3 (in) "Unrestricted, general-purpose input-only pin.", J10 IP_L09P_1/VREF_1 (in) "Dual-purpose pin that is either a Input-only pin, or provides a reference voltage input.", J11 IP_L09N_1 (in) "Unrestricted, general-purpose input-only pin.", K5 IP_L21P_3 (in) "Unrestricted, general-purpose input-only pin.", K6 IP_L21N_3 (in) "Unrestricted, general-purpose input-only pin.", K11 IP_L04P_1 (in) "Unrestricted, general-purpose input-only pin.", K12 IP_L04N_1/VREF_1 (in) "Dual-purpose pin that is either a Input-only pin, or provides a reference voltage input.", L5 IP_L25P_3 (in) "Unrestricted, general-purpose input-only pin.", L6 IP_L25N_3/VREF_3 (in) "Dual-purpose pin that is either a Input-only pin, or provides a reference voltage input.", L7 IP_2 (in) "Unrestricted, general-purpose input-only pin.", L8 IP_2 (in) "Unrestricted, general-purpose input-only pin.", L9 IP_2/VREF_2 (in) "Dual-purpose pin that is either a Input-only pin, or provides a reference voltage input.", L10 IP_2/VREF_2 (in) "Dual-purpose pin that is either a Input-only pin, or provides a reference voltage input.", M7 IP_2/VREF_2 (in) "Dual-purpose pin that is either a Input-only pin, or provides a reference voltage input.", M8 IP_2/VREF_2 (in) "Dual-purpose pin that is either a Input-only pin, or provides a reference voltage input.", M11 IP_2/VREF_2 (in) "Dual-purpose pin that is either a Input-only pin, or provides a reference voltage input.", N5 IP_2/VREF_2 (in) "Dual-purpose pin that is either a Input-only pin, or provides a reference voltage input."
part F pins: A2 PROG_B (in) "Dedicated configuration pin.", A15 TCK (in) "Dedicated JTAG pin.", B1 TDI (in) "Dedicated JTAG pin.", B2 TMS (in) "Dedicated JTAG pin.", B16 TDO (out) "Dedicated JTAG pin.", R16 SUSPEND (in) "Dedicated pin for the power-saving Suspend mode.", T15 DONE (io) "Dedicated configuration pin."
part G pins: B5 VCCO_0 (power) "Supplies power to the output buffers within the I/O bank.", B9 VCCO_0 (power) "Supplies power to the output buffers within the I/O bank.", B13 VCCO_0 (power) "Supplies power to the output buffers within the I/O bank.", D2 VCCO_3 (power) "Supplies power to the output buffers within the I/O bank.", E8 VCCO_0 (power) "Supplies power to the output buffers within the I/O bank.", E11 VCCAUX (power) "Dedicated auxiliary power supply pin.", E15 VCCO_1 (power) "Supplies power to the output buffers within the I/O bank.", F5 VCCAUX (power) "Dedicated auxiliary power supply pin.", G7 VCCINT (power) "Dedicated internal core logic power supply pin.", G9 VCCINT (power) "Dedicated internal core logic power supply pin.", H2 VCCO_3 (power) "Supplies power to the output buffers within the I/O bank.", H8 VCCINT (power) "Dedicated internal core logic power supply pin.", H12 VCCO_1 (power) "Supplies power to the output buffers within the I/O bank.", J5 VCCO_3 (power) "Supplies power to the output buffers within the I/O bank.", J9 VCCINT (power) "Dedicated internal core logic power supply pin.", J15 VCCO_1 (power) "Supplies power to the output buffers within the I/O bank.", K8 VCCINT (power) "Dedicated internal core logic power supply pin.", K10 VCCINT (power) "Dedicated internal core logic power supply pin.", L12 VCCAUX (power) "Dedicated auxiliary power supply pin.", M2 VCCO_3 (power) "Supplies power to the output buffers within the I/O bank.", M6 VCCAUX (power) "Dedicated auxiliary power supply pin.", M9 VCCO_2 (power) "Supplies power to the output buffers within the I/O bank.", N15 VCCO_1 (power) "Supplies power to the output buffers within the I/O bank.", R4 VCCO_2 (power) "Supplies power to the output buffers within the I/O bank.", R8 VCCO_2 (power) "Supplies power to the output buffers within the I/O bank.", R12 VCCO_2 (power) "Supplies power to the output buffers within the I/O bank."
part H pins: A1 GND (power) "Dedicated ground pin.", A16 GND (power) "Dedicated ground pin.", B7 GND (power) "Dedicated ground pin.", B11 GND (power) "Dedicated ground pin.", C3 GND (power) "Dedicated ground pin.", C14 GND (power) "Dedicated ground pin.", E5 GND (power) "Dedicated ground pin.", E12 GND (power) "Dedicated ground pin.", F2 GND (power) "Dedicated ground pin.", F6 GND (power) "Dedicated ground pin.", G8 GND (power) "Dedicated ground pin.", G10 GND (power) "Dedicated ground pin.", G15 GND (power) "Dedicated ground pin.", H9 GND (power) "Dedicated ground pin.", J8 GND (power) "Dedicated ground pin.", K2 GND (power) "Dedicated ground pin.", K7 GND (power) "Dedicated ground pin.", K9 GND (power) "Dedicated ground pin.", L11 GND (power) "Dedicated ground pin.", L15 GND (power) "Dedicated ground pin.", M5 GND (power) "Dedicated ground pin.", M12 GND (power) "Dedicated ground pin.", P3 GND (power) "Dedicated ground pin.", P14 GND (power) "Dedicated ground pin.", R6 GND (power) "Dedicated ground pin.", R10 GND (power) "Dedicated ground pin.", T1 GND (power) "Dedicated ground pin.", T16 GND (power) "Dedicated ground pin."
part A text: BANK 0
part B text: BANK 1
part C text: BANK 2
part D text: BANK 3

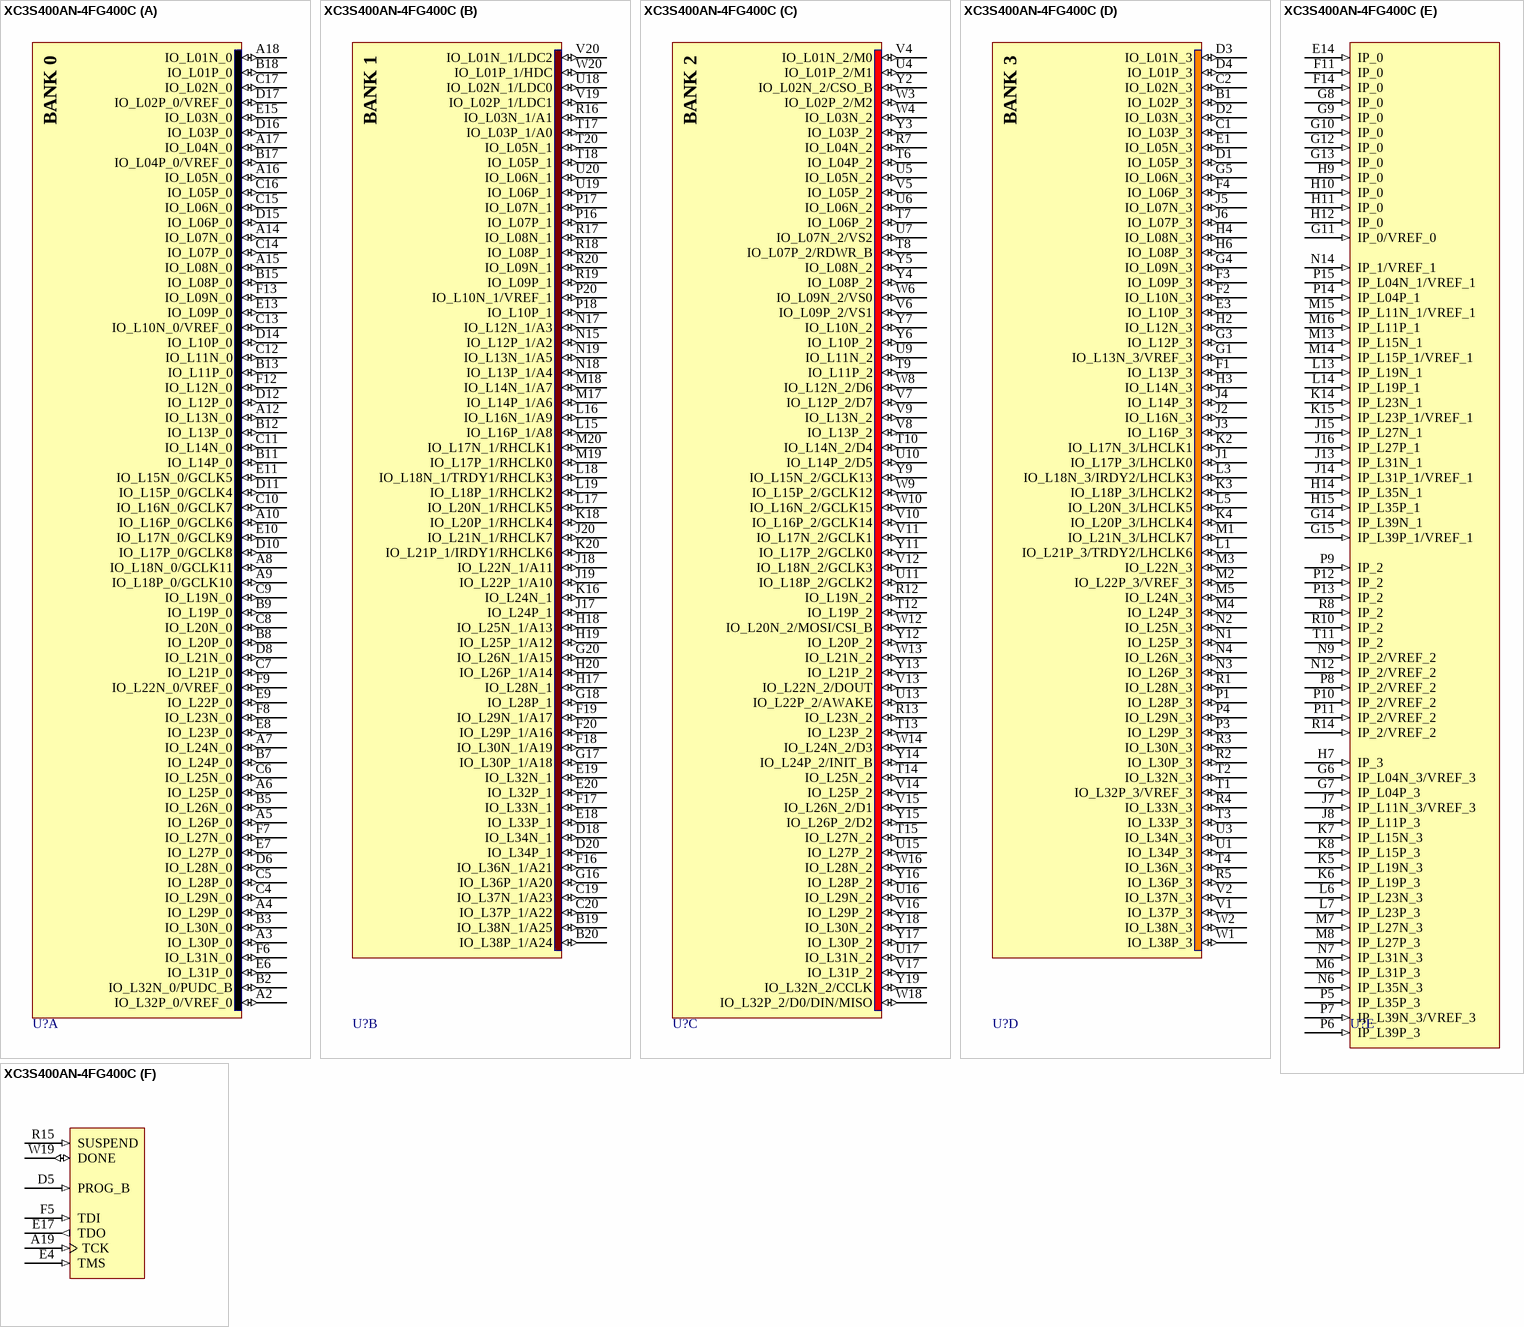
[diagram p8: symbol XC3S400AN-4FG400C]

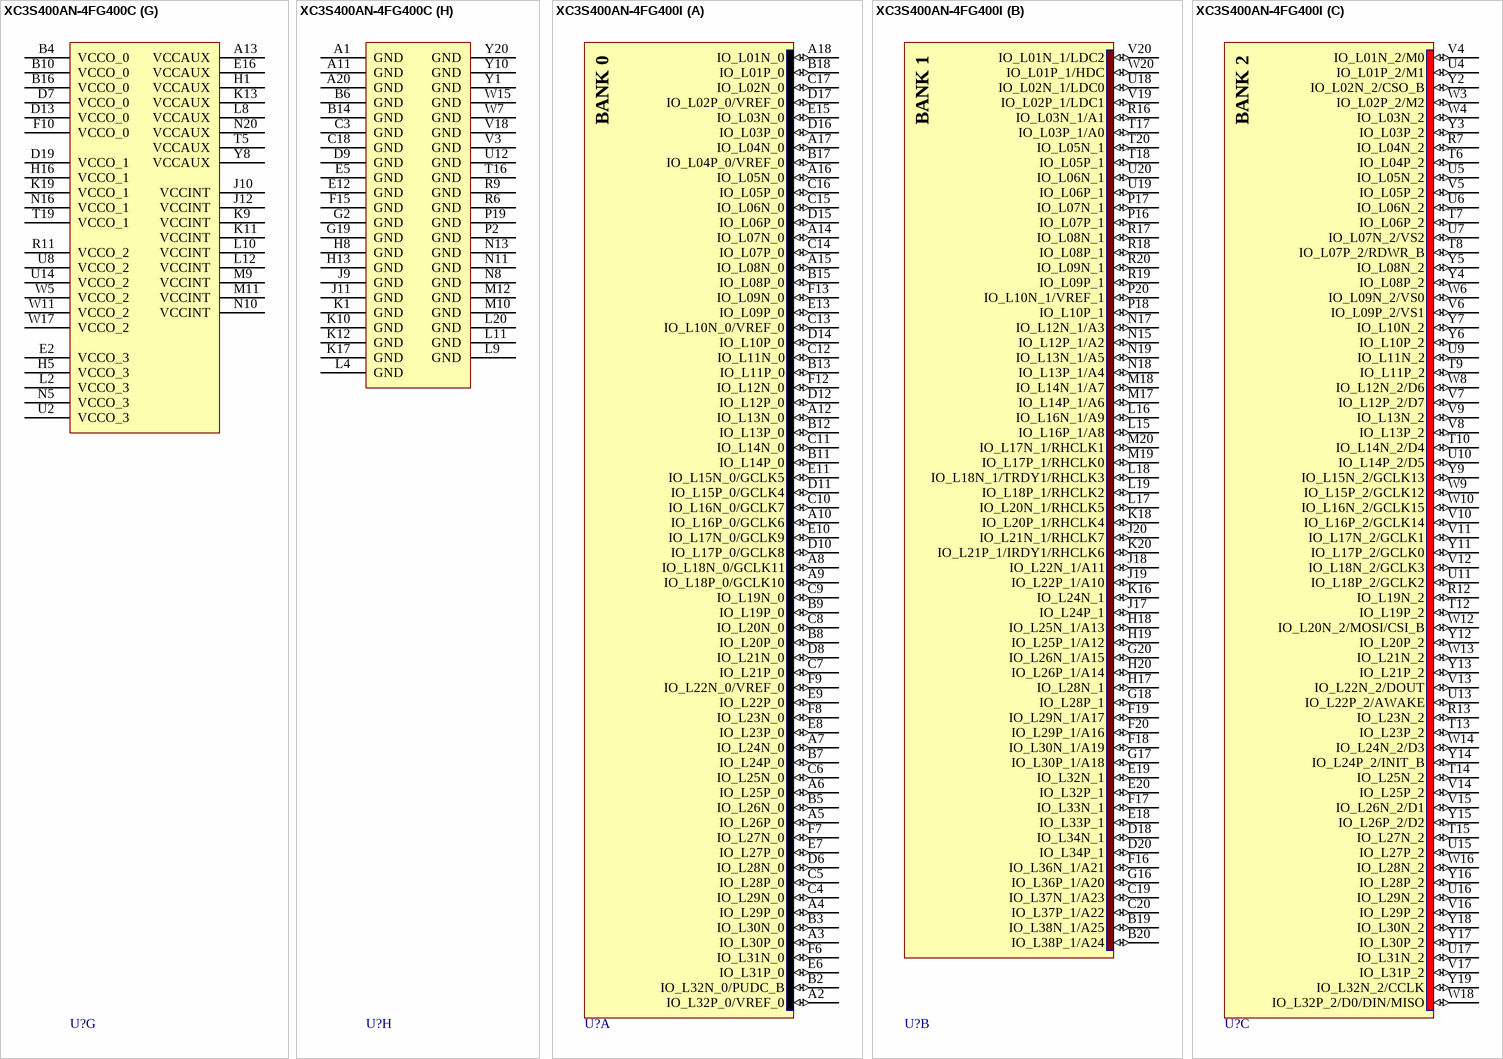
[diagram p9: symbols XC3S400AN-4FG400C to XC3S400AN-4FG400I]